# EAGLE library part ESP12 (library dirtcheaprx_nano)
ESP8266 Wifi module 12
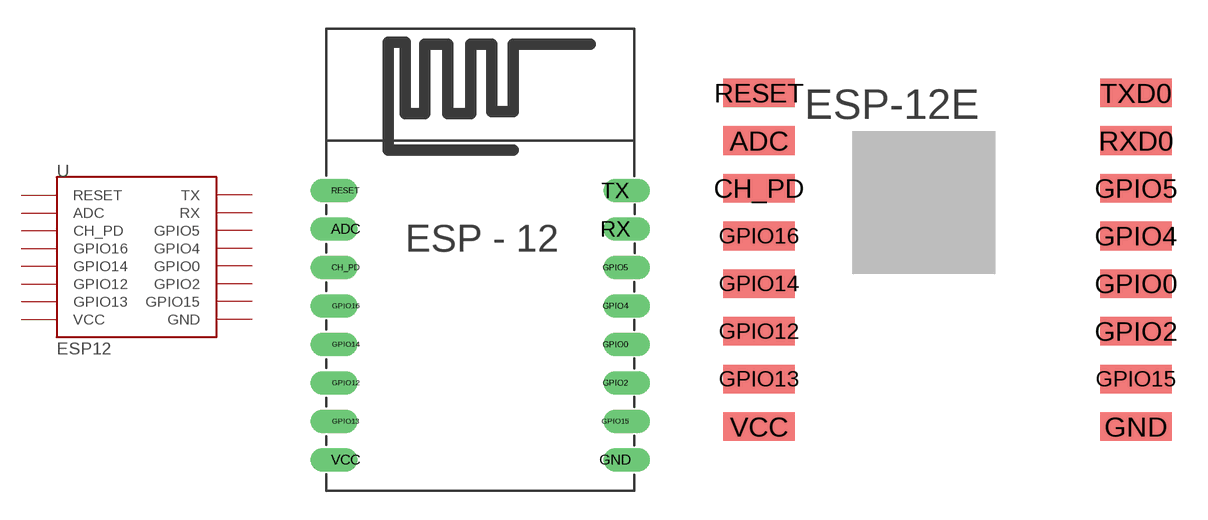
[diagram p5: symbol with the pads of ESP12; footprints ESP12, ESP12SE-SMD]

Designator prefix U

## ESP12  [ESP12]
ADC  ADC
CH_PD  CH_PD
GND  GND
GPIO0  GPIO0
GPIO2  GPIO2
GPIO4  GPIO4
GPIO5  GPIO5
GPIO12  GPIO12
GPIO13  GPIO13
GPIO14  GPIO14
GPIO15  GPIO15
GPIO16  GPIO16
RESET  RESET
RX  RX
TX  TX
VCC  VCC

## ESP12SMD  [ESP12SE-SMD]
ADC  ADC
CH_PD  CH_PD
GND  GND
GPIO0  GPIO0
GPIO2  GPIO2
GPIO4  GPIO4
GPIO5  GPIO5
GPIO12  GPIO12
GPIO13  GPIO13
GPIO14  GPIO14
GPIO15  GPIO15
GPIO16  GPIO16
RESET  RESET
RXD0  RX
TXD0  TX
VCC  VCC

## ESP12SMD-S  [ESP12S-SMD]
Pads as for ESP12SE-SMD

## Footprint ESP12 (pad centres in mm)
ESP8266 Module 12
drill 0.7 offset: ADC -7.1,3.8; CH_PD -7.1,1.8; GND 6.9,-8.2; GPIO0 6.9,-2.2; GPIO2 6.9,-4.2; GPIO4 6.9,-0.2; GPIO5 6.9,1.8; GPIO12 -7.1,-4.2; GPIO13 -7.1,-6.2; GPIO14 -7.1,-2.2; GPIO15 6.9,-6.2; GPIO16 -7.1,-0.2; RESET -7.1,5.8; RX 6.9,3.8; TX 6.9,5.8; VCC -7.1,-8.2

## Footprint ESP12SE-SMD (pad centres in mm)
ESP8266 Module 12 SMD pads
smd 3 x 1.2: ADC -7.9,3.6; CH_PD -7.9,1.6; GND 7.9,-8.4; GPIO0 7.9,-2.4; GPIO2 7.9,-4.4; GPIO4 7.9,-0.4; GPIO5 7.9,1.6; GPIO12 -7.9,-4.4; GPIO13 -7.9,-6.4; GPIO14 -7.9,-2.4; GPIO15 7.9,-6.4; GPIO16 -7.9,-0.4; RESET -7.9,5.6; RXD0 7.9,3.6; TXD0 7.9,5.6; VCC -7.9,-8.4

## Footprint ESP12S-SMD (pad centres in mm)
ESP8266 Module 12 SMD pads
smd 2 x 1.2: ADC -8.4,3.6; CH_PD -8.4,1.6; GND 8.4,-8.4; GPIO0 8.4,-2.4; GPIO2 8.4,-4.4; GPIO4 8.4,-0.4; GPIO5 8.4,1.6; GPIO12 -8.4,-4.4; GPIO13 -8.4,-6.4; GPIO14 -8.4,-2.4; GPIO15 8.4,-6.4; GPIO16 -8.4,-0.4; RESET -8.4,5.6; RXD0 8.4,3.6; TXD0 8.4,5.6; VCC -8.4,-8.4